# EAGLE library part IFX21004TNV51 (library Gibbot v4)
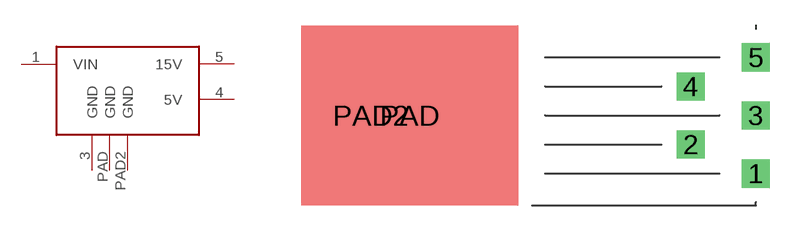
[diagram p16: symbol with the pads of TO220-5; footprint TO220-5]

Designator prefix -

## IFX21004TNV51  [TO220-5]
1  VIN
3  GND
4  5V
5  15V
PAD  GND
PAD2  GND

## Footprint TO220-5 (pad centres in mm)
drill 1.1 square: 1 3.81,-3.404; 2 0,-1.702; 3 3.81,0; 4 0,1.702; 5 3.81,3.404
smd 12.7 x 10.541: PAD -16.434,0
drill 3.937 round: PAD2 -18.72,0